# Altium schematic symbol library BTN-PTS525SM.SchLib: 1 symbol
Pins are listed as number, name and electrical type; pins without a type are passive.

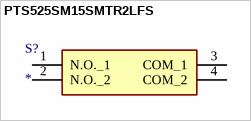
[diagram p0: symbol PTS525SM15SMTR2LFS]

## PTS525SM15SMTR2LFS
designator S?
Switch; Manufacturer_Name: C & K COMPONENTS; Manufacturer_Part_Number: PTS525SM15SMTR2LFS; Description: PTS525SM15SMTR2LFS (Tactile Switches); Datasheet Link: https://www.ckswitches.com/media/1467/pts525.pdf; Height: 0mm; Mouser Part Number: 611-PTS525SM15SMTR2; Mouser Price/Stock: https://www.mouser.com/Search/Refine.aspx?Keyword=611-PTS525SM15SMTR2
footprint PTS525SM08SMTR2LFS
pins: 1 N.O._1, 2 N.O._2, 3 COM_1, 4 COM_2